# Altium footprint library LQFP.PcbLib: 14 footprints
Each footprint in its own frame and in the unit in brackets; x right, y up, seen from the top. Pads: shape width x height; smd on the part's side, far side on the other; paste and mask are expansions set on the pad; w line width, h text height; cw(c..) or ccw(c..) is an arc to the next point about the centre after c.
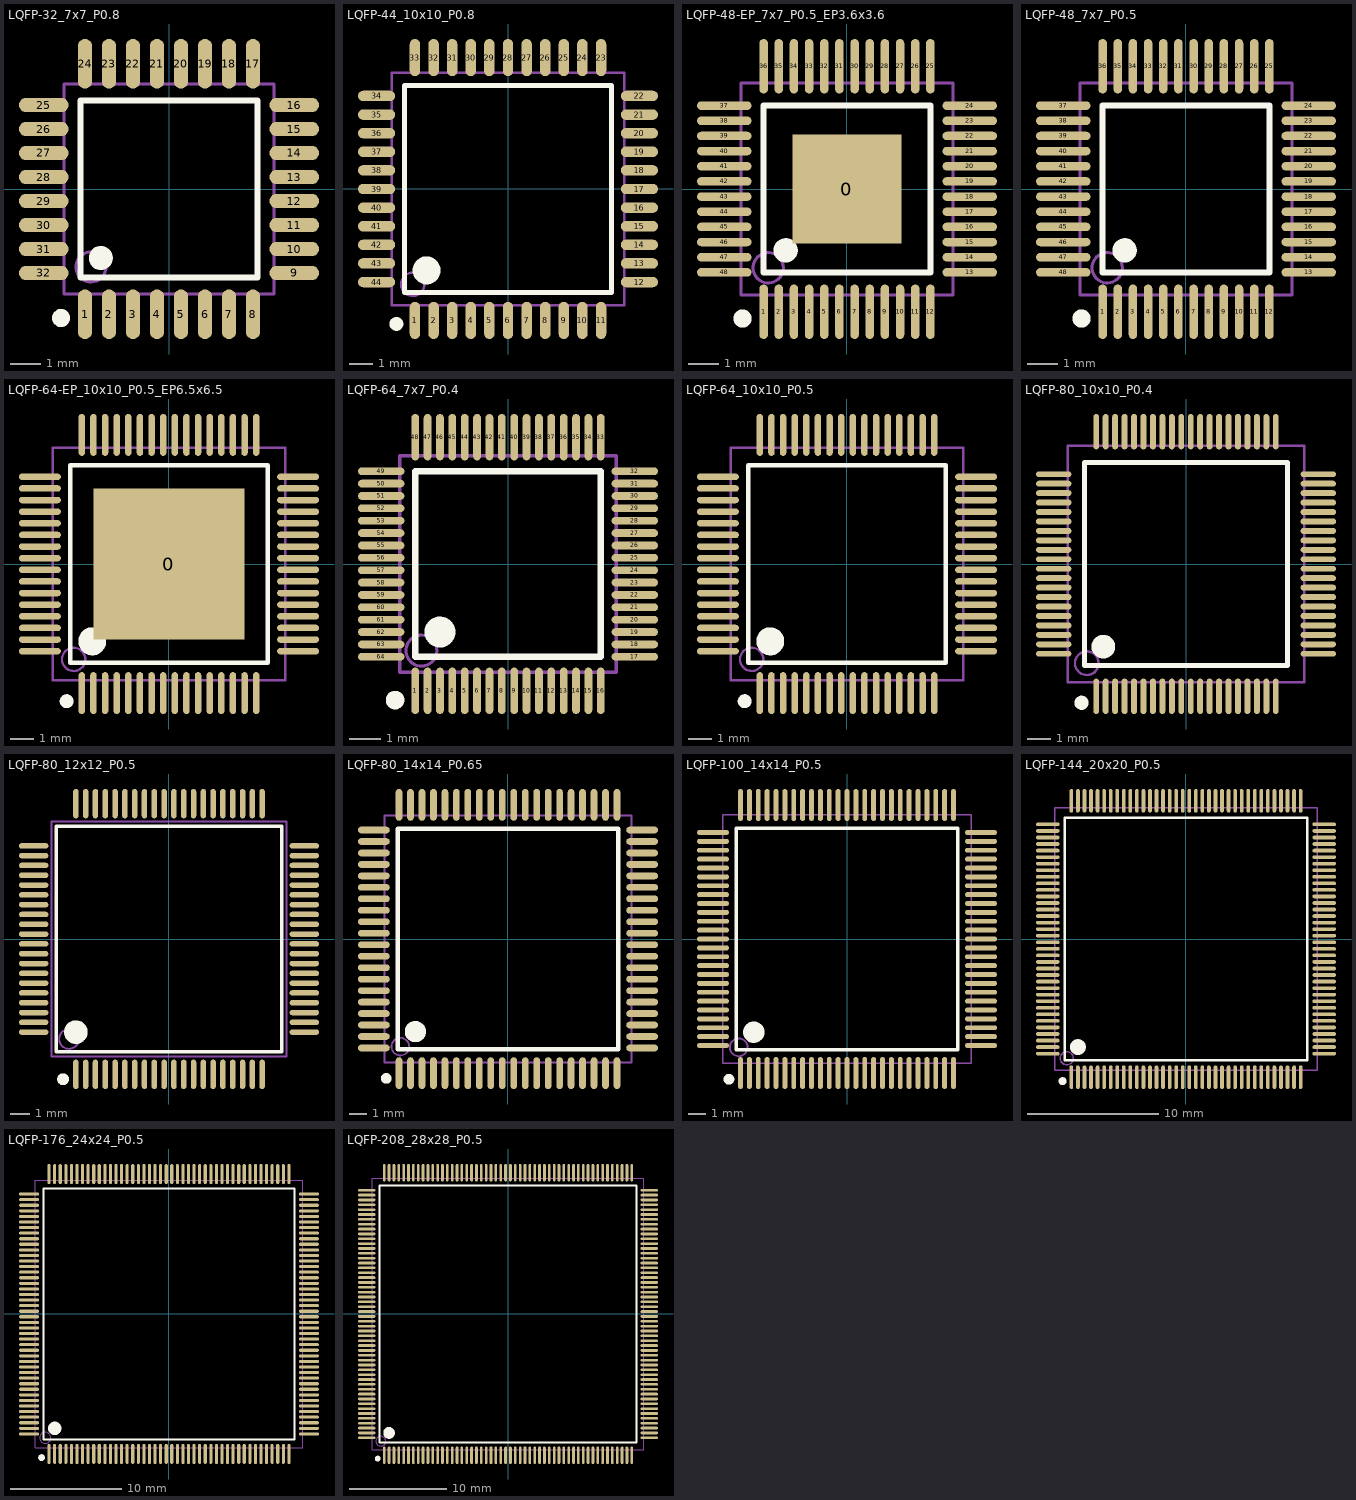
[diagram p0: the footprints below, top view; thin cyan lines are the x and y axes]

## LQFP-32_7x7_P0.8 [mm]
pads (32):
  oval 0.48x1.65 smd: 1(-2.8,-4.175) 2(-2,-4.175) 3(-1.2,-4.175) 4(-0.4,-4.175) 5(0.4,-4.175) 6(1.2,-4.175) 7(2,-4.175) 8(2.8,-4.175) 17(2.8,4.175) 18(2,4.175) 19(1.2,4.175) 20(0.4,4.175) 21(-0.4,4.175) 22(-1.2,4.175) 23(-2,4.175) 24(-2.8,4.175)
  oval 1.65x0.48 smd: 9(4.175,-2.8) 10(4.175,-2) 11(4.175,-1.2) 12(4.175,-0.4) 13(4.175,0.4) 14(4.175,1.2) 15(4.175,2) 16(4.175,2.8) 25(-4.175,2.8) 26(-4.175,2) 27(-4.175,1.2) 28(-4.175,0.4) 29(-4.175,-0.4) 30(-4.175,-1.2) 31(-4.175,-2) 32(-4.175,-2.8)
Top Overlay:
  circle w0.4: c-2.275,-2.3 r0.2
  circle w0.3: c-3.6,-4.3 r0.15
  lines w0.2: -2.95,-2.95 -2.95,2.95 2.95,2.95 2.95,-2.95 -2.95,-2.95
Mechanical 13:
  circle w0.1: c-2.6,-2.6 r0.5
  lines w0.1: -3.5,-3.5 -3.5,3.5 3.5,3.5 3.5,-3.5 -3.5,-3.5
3D body "LQFP-32_7x7mm_P0.8mm.step": height 1.5, standoff 0, extent -4.5,-4.5 4.5,4.5

## LQFP-44_10x10_P0.8 [mm]
pads (44):
  oval 0.45x1.6 smd: 1(-4,-5.65) 2(-3.2,-5.65) 3(-2.4,-5.65) 4(-1.6,-5.65) 5(-0.8,-5.65) 6(0,-5.65) 7(0.8,-5.65) 8(1.6,-5.65) 9(2.4,-5.65) 10(3.2,-5.65) 11(4,-5.65) 23(4,5.65) 24(3.2,5.65) 25(2.4,5.65) 26(1.6,5.65) 27(0.8,5.65) 28(0,5.65) 29(-0.8,5.65) 30(-1.6,5.65) 31(-2.4,5.65) 32(-3.2,5.65) 33(-4,5.65)
  oval 1.6x0.45 smd: 12(5.65,-4) 13(5.65,-3.2) 14(5.65,-2.4) 15(5.65,-1.6) 16(5.65,-0.8) 17(5.65,0) 18(5.65,0.8) 19(5.65,1.6) 20(5.65,2.4) 21(5.65,3.2) 22(5.65,4) 34(-5.65,4) 35(-5.65,3.2) 36(-5.65,2.4) 37(-5.65,1.6) 38(-5.65,0.8) 39(-5.65,0) 40(-5.65,-0.8) 41(-5.65,-1.6) 42(-5.65,-2.4) 43(-5.65,-3.2) 44(-5.65,-4)
Top Overlay:
  circle w0.6: c-3.5,-3.5 r0.3
  circle w0.3: c-4.8,-5.8 r0.15
  lines w0.2: -4.45,-4.45 4.45,-4.45 4.45,4.45 -4.45,4.45 -4.45,-4.45
Mechanical 13:
  circle w0.1: c-4.1,-4.1 r0.5
  lines w0.1: -5,-5 5,-5 5,5 -5,5 -5,-5
3D body "LQFP-44_10x10mm_P0.8mm.step": height 1.5, standoff 0, extent -6,-6 6,6

## LQFP-48-EP_7x7_P0.5_EP3.6x3.6 [mm]
pads (49):
  rect 3.6x3.6 smd mask+0.051: 0(0,0)
  oval 0.28x1.8 smd mask+0.051: 1(-2.75,-4.05) 2(-2.25,-4.05) 3(-1.75,-4.05) 4(-1.25,-4.05) 5(-0.75,-4.05) 6(-0.25,-4.05) 7(0.25,-4.05) 8(0.75,-4.05) 9(1.25,-4.05) 10(1.75,-4.05) 11(2.25,-4.05) 12(2.75,-4.05) 25(2.75,4.05) 26(2.25,4.05) 27(1.75,4.05) 28(1.25,4.05) 29(0.75,4.05) 30(0.25,4.05) 31(-0.25,4.05) 32(-0.75,4.05) 33(-1.25,4.05) 34(-1.75,4.05) 35(-2.25,4.05) 36(-2.75,4.05)
  oval 1.8x0.28 smd mask+0.051: 13(4.05,-2.75) 14(4.05,-2.25) 15(4.05,-1.75) 16(4.05,-1.25) 17(4.05,-0.75) 18(4.05,-0.25) 19(4.05,0.25) 20(4.05,0.75) 21(4.05,1.25) 22(4.05,1.75) 23(4.05,2.25) 24(4.05,2.75) 37(-4.05,2.75) 38(-4.05,2.25) 39(-4.05,1.75) 40(-4.05,1.25) 41(-4.05,0.75) 42(-4.05,0.25) 43(-4.05,-0.25) 44(-4.05,-0.75) 45(-4.05,-1.25) 46(-4.05,-1.75) 47(-4.05,-2.25) 48(-4.05,-2.75)
Top Overlay:
  circle w0.4: c-2.025,-2.025 r0.2
  circle w0.3: c-3.45,-4.275 r0.15
  lines w0.2: -2.75,-2.75 -2.75,2.75 2.75,2.75 2.75,-2.75 -2.75,-2.75
Mechanical 13:
  circle w0.1: c-2.6,-2.6 r0.5
  lines w0.1: -3.5,-3.5 -3.5,3.5 3.5,3.5 3.5,-3.5 -3.5,-3.5
3D body "LQFP-48-1EP_7x7mm_P0.5mm_EP3.6x3.6mm.step": height 1.6, standoff 0, extent -4.66,-4.66 4.66,4.66

## LQFP-48_7x7_P0.5 [mm]
pads (48):
  oval 0.28x1.8 smd mask+0.051: 1(-2.75,-4.05) 2(-2.25,-4.05) 3(-1.75,-4.05) 4(-1.25,-4.05) 5(-0.75,-4.05) 6(-0.25,-4.05) 7(0.25,-4.05) 8(0.75,-4.05) 9(1.25,-4.05) 10(1.75,-4.05) 11(2.25,-4.05) 12(2.75,-4.05) 25(2.75,4.05) 26(2.25,4.05) 27(1.75,4.05) 28(1.25,4.05) 29(0.75,4.05) 30(0.25,4.05) 31(-0.25,4.05) 32(-0.75,4.05) 33(-1.25,4.05) 34(-1.75,4.05) 35(-2.25,4.05) 36(-2.75,4.05)
  oval 1.8x0.28 smd mask+0.051: 13(4.05,-2.75) 14(4.05,-2.25) 15(4.05,-1.75) 16(4.05,-1.25) 17(4.05,-0.75) 18(4.05,-0.25) 19(4.05,0.25) 20(4.05,0.75) 21(4.05,1.25) 22(4.05,1.75) 23(4.05,2.25) 24(4.05,2.75) 37(-4.05,2.75) 38(-4.05,2.25) 39(-4.05,1.75) 40(-4.05,1.25) 41(-4.05,0.75) 42(-4.05,0.25) 43(-4.05,-0.25) 44(-4.05,-0.75) 45(-4.05,-1.25) 46(-4.05,-1.75) 47(-4.05,-2.25) 48(-4.05,-2.75)
Top Overlay:
  circle w0.3: c-3.45,-4.275 r0.15
  circle w0.4: c-2.025,-2.025 r0.2
  lines w0.2: -2.75,-2.75 2.75,-2.75 2.75,2.75 -2.75,2.75 -2.75,-2.75
Mechanical 13:
  circle w0.1: c-2.6,-2.6 r0.5
  lines w0.1: -3.5,-3.5 3.5,-3.5 3.5,3.5 -3.5,3.5 -3.5,-3.5
3D body "LQFP-48_7x7mm_P0.5mm.step": height 1.5, standoff 0, extent -4.5,-4.5 4.5,4.5

## LQFP-64-EP_10x10_P0.5_EP6.5x6.5 [mm]
pads (65):
  rect 6.5x6.5 smd mask+0.051: 0(0,0)
  oval 0.28x1.8 smd mask+0.051: 1(-3.75,-5.55) 2(-3.25,-5.55) 3(-2.75,-5.55) 4(-2.25,-5.55) 5(-1.75,-5.55) 6(-1.25,-5.55) 7(-0.75,-5.55) 8(-0.25,-5.55) 9(0.25,-5.55) 10(0.75,-5.55) 11(1.25,-5.55) 12(1.75,-5.55) 13(2.25,-5.55) 14(2.75,-5.55) 15(3.25,-5.55) 16(3.75,-5.55) 33(3.75,5.55) 34(3.25,5.55) 35(2.75,5.55) 36(2.25,5.55) 37(1.75,5.55) 38(1.25,5.55) 39(0.75,5.55) 40(0.25,5.55) 41(-0.25,5.55) 42(-0.75,5.55) 43(-1.25,5.55) 44(-1.75,5.55) 45(-2.25,5.55) 46(-2.75,5.55) 47(-3.25,5.55) 48(-3.75,5.55)
  oval 1.8x0.28 smd mask+0.051: 17(5.55,-3.75) 18(5.55,-3.25) 19(5.55,-2.75) 20(5.55,-2.25) 21(5.55,-1.75) 22(5.55,-1.25) 23(5.55,-0.75) 24(5.55,-0.25) 25(5.55,0.25) 26(5.55,0.75) 27(5.55,1.25) 28(5.55,1.75) 29(5.55,2.25) 30(5.55,2.75) 31(5.55,3.25) 32(5.55,3.75) 49(-5.55,3.75) 50(-5.55,3.25) 51(-5.55,2.75) 52(-5.55,2.25) 53(-5.55,1.75) 54(-5.55,1.25) 55(-5.55,0.75) 56(-5.55,0.25) 57(-5.55,-0.25) 58(-5.55,-0.75) 59(-5.55,-1.25) 60(-5.55,-1.75) 61(-5.55,-2.25) 62(-5.55,-2.75) 63(-5.55,-3.25) 64(-5.55,-3.75)
Top Overlay:
  circle w0.6: c-3.3,-3.325 r0.3
  circle w0.3: c-4.4,-5.9 r0.15
  lines w0.2: -4.25,-4.25 -4.25,4.25 4.25,4.25 4.25,-4.25 -4.25,-4.25
Mechanical 13:
  circle w0.1: c-4.1,-4.1 r0.5
  lines w0.1: -5,-5 -5,5 5,5 5,-5 -5,-5
3D body "LQFP-64-1EP_10x10mm_P0.5mm_EP6.5x6.5mm.step": height 1.5, standoff 0, extent -6,-6 6,6

## LQFP-64_7x7_P0.4 [mm]
pads (64):
  oval 0.25x1.5 smd mask+0.051: 1(-3,-4.1) 2(-2.6,-4.1) 3(-2.2,-4.1) 4(-1.8,-4.1) 5(-1.4,-4.1) 6(-1,-4.1) 7(-0.6,-4.1) 8(-0.2,-4.1) 9(0.2,-4.1) 10(0.6,-4.1) 11(1,-4.1) 12(1.4,-4.1) 13(1.8,-4.1) 14(2.2,-4.1) 15(2.6,-4.1) 16(3,-4.1) 33(3,4.1) 34(2.6,4.1) 35(2.2,4.1) 36(1.8,4.1) 37(1.4,4.1) 38(1,4.1) 39(0.6,4.1) 40(0.2,4.1) 41(-0.2,4.1) 42(-0.6,4.1) 43(-1,4.1) 44(-1.4,4.1) 45(-1.8,4.1) 46(-2.2,4.1) 47(-2.6,4.1) 48(-3,4.1)
  oval 1.5x0.25 smd mask+0.051: 17(4.1,-3) 18(4.1,-2.6) 19(4.1,-2.2) 20(4.1,-1.8) 21(4.1,-1.4) 22(4.1,-1) 23(4.1,-0.6) 24(4.1,-0.2) 25(4.1,0.2) 26(4.1,0.6) 27(4.1,1) 28(4.1,1.4) 29(4.1,1.8) 30(4.1,2.2) 31(4.1,2.6) 32(4.1,3) 49(-4.1,3) 50(-4.1,2.6) 51(-4.1,2.2) 52(-4.1,1.8) 53(-4.1,1.4) 54(-4.1,1) 55(-4.1,0.6) 56(-4.1,0.2) 57(-4.1,-0.2) 58(-4.1,-0.6) 59(-4.1,-1) 60(-4.1,-1.4) 61(-4.1,-1.8) 62(-4.1,-2.2) 63(-4.1,-2.6) 64(-4.1,-3)
Top Overlay:
  circle w0.3: c-3.65,-4.4 r0.15
  circle w0.5: c-2.2,-2.2 r0.25
  lines w0.2: -3,-3 -3,3 3,3 3,-3 -3,-3
Mechanical 13:
  circle w0.1: c-2.8,-2.8 r0.5
  lines w0.1: -3.5,-3.5 -3.5,3.5 3.5,3.5 3.5,-3.5 -3.5,-3.5

## LQFP-64_10x10_P0.5 [mm]
pads (64):
  oval 0.28x1.8 smd mask+0.051: 1(-3.75,-5.55) 2(-3.25,-5.55) 3(-2.75,-5.55) 4(-2.25,-5.55) 5(-1.75,-5.55) 6(-1.25,-5.55) 7(-0.75,-5.55) 8(-0.25,-5.55) 9(0.25,-5.55) 10(0.75,-5.55) 11(1.25,-5.55) 12(1.75,-5.55) 13(2.25,-5.55) 14(2.75,-5.55) 15(3.25,-5.55) 16(3.75,-5.55) 33(3.75,5.55) 34(3.25,5.55) 35(2.75,5.55) 36(2.25,5.55) 37(1.75,5.55) 38(1.25,5.55) 39(0.75,5.55) 40(0.25,5.55) 41(-0.25,5.55) 42(-0.75,5.55) 43(-1.25,5.55) 44(-1.75,5.55) 45(-2.25,5.55) 46(-2.75,5.55) 47(-3.25,5.55) 48(-3.75,5.55)
  oval 1.8x0.28 smd mask+0.051: 17(5.55,-3.75) 18(5.55,-3.25) 19(5.55,-2.75) 20(5.55,-2.25) 21(5.55,-1.75) 22(5.55,-1.25) 23(5.55,-0.75) 24(5.55,-0.25) 25(5.55,0.25) 26(5.55,0.75) 27(5.55,1.25) 28(5.55,1.75) 29(5.55,2.25) 30(5.55,2.75) 31(5.55,3.25) 32(5.55,3.75) 49(-5.55,3.75) 50(-5.55,3.25) 51(-5.55,2.75) 52(-5.55,2.25) 53(-5.55,1.75) 54(-5.55,1.25) 55(-5.55,0.75) 56(-5.55,0.25) 57(-5.55,-0.25) 58(-5.55,-0.75) 59(-5.55,-1.25) 60(-5.55,-1.75) 61(-5.55,-2.25) 62(-5.55,-2.75) 63(-5.55,-3.25) 64(-5.55,-3.75)
Top Overlay:
  circle w0.6: c-3.3,-3.325 r0.3
  circle w0.3: c-4.4,-5.9 r0.15
  lines w0.2: -4.25,-4.25 -4.25,4.25 4.25,4.25 4.25,-4.25 -4.25,-4.25
Mechanical 13:
  circle w0.1: c-4.1,-4.1 r0.5
  lines w0.1: -5,-5 -5,5 5,5 5,-5 -5,-5
3D body "LQFP-64_10x10mm_P0.5mm.step": height 1.5, standoff 0, extent -6,-6 6,6

## LQFP-80_10x10_P0.4 [mm]
pads (80):
  oval 0.25x1.5 smd mask+0.051: 1(-3.8,-5.6) 2(-3.4,-5.6) 3(-3,-5.6) 4(-2.6,-5.6) 5(-2.2,-5.6) 6(-1.8,-5.6) 7(-1.4,-5.6) 8(-1,-5.6) 9(-0.6,-5.6) 10(-0.2,-5.6) 11(0.2,-5.6) 12(0.6,-5.6) 13(1,-5.6) 14(1.4,-5.6) 15(1.8,-5.6) 16(2.2,-5.6) 17(2.6,-5.6) 18(3,-5.6) 19(3.4,-5.6) 20(3.8,-5.6) 41(3.8,5.6) 42(3.4,5.6) 43(3,5.6) 44(2.6,5.6) 45(2.2,5.6) 46(1.8,5.6) 47(1.4,5.6) 48(1,5.6) 49(0.6,5.6) 50(0.2,5.6) 51(-0.2,5.6) 52(-0.6,5.6) 53(-1,5.6) 54(-1.4,5.6) 55(-1.8,5.6) 56(-2.2,5.6) 57(-2.6,5.6) 58(-3,5.6) 59(-3.4,5.6) 60(-3.8,5.6)
  oval 1.5x0.25 smd mask+0.051: 21(5.6,-3.8) 22(5.6,-3.4) 23(5.6,-3) 24(5.6,-2.6) 25(5.6,-2.2) 26(5.6,-1.8) 27(5.6,-1.4) 28(5.6,-1) 29(5.6,-0.6) 30(5.6,-0.2) 31(5.6,0.2) 32(5.6,0.6) 33(5.6,1) 34(5.6,1.4) 35(5.6,1.8) 36(5.6,2.2) 37(5.6,2.6) 38(5.6,3) 39(5.6,3.4) 40(5.6,3.8) 61(-5.6,3.8) 62(-5.6,3.4) 63(-5.6,3) 64(-5.6,2.6) 65(-5.6,2.2) 66(-5.6,1.8) 67(-5.6,1.4) 68(-5.6,1) 69(-5.6,0.6) 70(-5.6,0.2) 71(-5.6,-0.2) 72(-5.6,-0.6) 73(-5.6,-1) 74(-5.6,-1.4) 75(-5.6,-1.8) 76(-5.6,-2.2) 77(-5.6,-2.6) 78(-5.6,-3) 79(-5.6,-3.4) 80(-5.6,-3.8)
Top Overlay:
  circle w0.3: c-4.425,-5.875 r0.15
  circle w0.5: c-3.5,-3.5 r0.25
  lines w0.2: -4.3,-4.3 4.3,-4.3 4.3,4.3 -4.3,4.3 -4.3,-4.3
Mechanical 13:
  circle w0.1: c-4.2,-4.2 r0.5
  lines w0.1: -5,-5 5,-5 5,5 -5,5 -5,-5
3D body "LQFP-80_10x10mm_P0.4mm.step": height 1.6, standoff 0, extent -6.15,-6.15 6.15,6.15

## LQFP-80_12x12_P0.5 [mm]
pads (80):
  oval 0.28x1.5 smd mask+0.051: 1(-4.75,-6.9) 2(-4.25,-6.9) 3(-3.75,-6.9) 4(-3.25,-6.9) 5(-2.75,-6.9) 6(-2.25,-6.9) 7(-1.75,-6.9) 8(-1.25,-6.9) 9(-0.75,-6.9) 10(-0.25,-6.9) 11(0.25,-6.9) 12(0.75,-6.9) 13(1.25,-6.9) 14(1.75,-6.9) 15(2.25,-6.9) 16(2.75,-6.9) 17(3.25,-6.9) 18(3.75,-6.9) 19(4.25,-6.9) 20(4.75,-6.9) 41(4.75,6.9) 42(4.25,6.9) 43(3.75,6.9) 44(3.25,6.9) 45(2.75,6.9) 46(2.25,6.9) 47(1.75,6.9) 48(1.25,6.9) 49(0.75,6.9) 50(0.25,6.9) 51(-0.25,6.9) 52(-0.75,6.9) 53(-1.25,6.9) 54(-1.75,6.9) 55(-2.25,6.9) 56(-2.75,6.9) 57(-3.25,6.9) 58(-3.75,6.9) 59(-4.25,6.9) 60(-4.75,6.9)
  oval 1.5x0.28 smd mask+0.051: 21(6.9,-4.75) 22(6.9,-4.25) 23(6.9,-3.75) 24(6.9,-3.25) 25(6.9,-2.75) 26(6.9,-2.25) 27(6.9,-1.75) 28(6.9,-1.25) 29(6.9,-0.75) 30(6.9,-0.25) 31(6.9,0.25) 32(6.9,0.75) 33(6.9,1.25) 34(6.9,1.75) 35(6.9,2.25) 36(6.9,2.75) 37(6.9,3.25) 38(6.9,3.75) 39(6.9,4.25) 40(6.9,4.75) 61(-6.9,4.75) 62(-6.9,4.25) 63(-6.9,3.75) 64(-6.9,3.25) 65(-6.9,2.75) 66(-6.9,2.25) 67(-6.9,1.75) 68(-6.9,1.25) 69(-6.9,0.75) 70(-6.9,0.25) 71(-6.9,-0.25) 72(-6.9,-0.75) 73(-6.9,-1.25) 74(-6.9,-1.75) 75(-6.9,-2.25) 76(-6.9,-2.75) 77(-6.9,-3.25) 78(-6.9,-3.75) 79(-6.9,-4.25) 80(-6.9,-4.75)
Top Overlay:
  circle w0.6: c-4.75,-4.75 r0.3
  circle w0.3: c-5.4,-7.15 r0.15
  lines w0.2: -5.75,-5.75 5.75,-5.75 5.75,5.75 -5.75,5.75 -5.75,-5.75
Mechanical 13:
  circle w0.1: c-5.1,-5.1 r0.5
  lines w0.1: -6,-6 6,-6 6,6 -6,6 -6,-6
3D body "LQFP-80_12x12mm_P0.5mm.step": height 1.5, standoff 0, extent -7,-7 7,7

## LQFP-80_14x14_P0.65 [mm]
pads (80):
  oval 0.38x1.8 smd mask+0.051: 1(-6.175,-7.6) 2(-5.525,-7.6) 3(-4.875,-7.6) 4(-4.225,-7.6) 5(-3.575,-7.6) 6(-2.925,-7.6) 7(-2.275,-7.6) 8(-1.625,-7.6) 9(-0.975,-7.6) 10(-0.325,-7.6) 11(0.325,-7.6) 12(0.975,-7.6) 13(1.625,-7.6) 14(2.275,-7.6) 15(2.925,-7.6) 16(3.575,-7.6) 17(4.225,-7.6) 18(4.875,-7.6) 19(5.525,-7.6) 20(6.175,-7.6) 41(6.175,7.6) 42(5.525,7.6) 43(4.875,7.6) 44(4.225,7.6) 45(3.575,7.6) 46(2.925,7.6) 47(2.275,7.6) 48(1.625,7.6) 49(0.975,7.6) 50(0.325,7.6) 51(-0.325,7.6) 52(-0.975,7.6) 53(-1.625,7.6) 54(-2.275,7.6) 55(-2.925,7.6) 56(-3.575,7.6) 57(-4.225,7.6) 58(-4.875,7.6) 59(-5.525,7.6) 60(-6.175,7.6)
  oval 1.8x0.38 smd mask+0.051: 21(7.6,-6.175) 22(7.6,-5.525) 23(7.6,-4.875) 24(7.6,-4.225) 25(7.6,-3.575) 26(7.6,-2.925) 27(7.6,-2.275) 28(7.6,-1.625) 29(7.6,-0.975) 30(7.6,-0.325) 31(7.6,0.325) 32(7.6,0.975) 33(7.6,1.625) 34(7.6,2.275) 35(7.6,2.925) 36(7.6,3.575) 37(7.6,4.225) 38(7.6,4.875) 39(7.6,5.525) 40(7.6,6.175) 61(-7.6,6.175) 62(-7.6,5.525) 63(-7.6,4.875) 64(-7.6,4.225) 65(-7.6,3.575) 66(-7.6,2.925) 67(-7.6,2.275) 68(-7.6,1.625) 69(-7.6,0.975) 70(-7.6,0.325) 71(-7.6,-0.325) 72(-7.6,-0.975) 73(-7.6,-1.625) 74(-7.6,-2.275) 75(-7.6,-2.925) 76(-7.6,-3.575) 77(-7.6,-4.225) 78(-7.6,-4.875) 79(-7.6,-5.525) 80(-7.6,-6.175)
Top Overlay:
  circle w0.3: c-6.9,-7.9 r0.15
  circle w0.6: c-5.25,-5.25 r0.3
  lines w0.254: -6.25,-6.25 6.25,-6.25 6.25,6.25 -6.25,6.25 -6.25,-6.25
Mechanical 13:
  circle w0.1: c-6.1,-6.1 r0.5
  lines w0.1: -7,-7 7,-7 7,7 -7,7 -7,-7
3D body "LQFP-80_14x14mm_P0.65mm.step": height 1.6, standoff 0, extent -8.2,-8.2 8.2,8.2

## LQFP-100_14x14_P0.5 [mm]
pads (100):
  oval 0.28x1.8 smd mask+0.051: 1(-6,-7.55) 2(-5.5,-7.55) 3(-5,-7.55) 4(-4.5,-7.55) 5(-4,-7.55) 6(-3.5,-7.55) 7(-3,-7.55) 8(-2.5,-7.55) 9(-2,-7.55) 10(-1.5,-7.55) 11(-1,-7.55) 12(-0.5,-7.55) 13(0,-7.55) 14(0.5,-7.55) 15(1,-7.55) 16(1.5,-7.55) 17(2,-7.55) 18(2.5,-7.55) 19(3,-7.55) 20(3.5,-7.55) 21(4,-7.55) 22(4.5,-7.55) 23(5,-7.55) 24(5.5,-7.55) 25(6,-7.55) 51(6,7.55) 52(5.5,7.55) 53(5,7.55) 54(4.5,7.55) 55(4,7.55) 56(3.5,7.55) 57(3,7.55) 58(2.5,7.55) 59(2,7.55) 60(1.5,7.55) 61(1,7.55) 62(0.5,7.55) 63(0,7.55) 64(-0.5,7.55) 65(-1,7.55) 66(-1.5,7.55) 67(-2,7.55) 68(-2.5,7.55) 69(-3,7.55) 70(-3.5,7.55) 71(-4,7.55) 72(-4.5,7.55) 73(-5,7.55) 74(-5.5,7.55) 75(-6,7.55)
  oval 1.8x0.28 smd mask+0.051: 26(7.55,-6) 27(7.55,-5.5) 28(7.55,-5) 29(7.55,-4.5) 30(7.55,-4) 31(7.55,-3.5) 32(7.55,-3) 33(7.55,-2.5) 34(7.55,-2) 35(7.55,-1.5) 36(7.55,-1) 37(7.55,-0.5) 38(7.55,0) 39(7.55,0.5) 40(7.55,1) 41(7.55,1.5) 42(7.55,2) 43(7.55,2.5) 44(7.55,3) 45(7.55,3.5) 46(7.55,4) 47(7.55,4.5) 48(7.55,5) 49(7.55,5.5) 50(7.55,6) 76(-7.55,6) 77(-7.55,5.5) 78(-7.55,5) 79(-7.55,4.5) 80(-7.55,4) 81(-7.55,3.5) 82(-7.55,3) 83(-7.55,2.5) 84(-7.55,2) 85(-7.55,1.5) 86(-7.55,1) 87(-7.55,0.5) 88(-7.55,0) 89(-7.55,-0.5) 90(-7.55,-1) 91(-7.55,-1.5) 92(-7.55,-2) 93(-7.55,-2.5) 94(-7.55,-3) 95(-7.55,-3.5) 96(-7.55,-4) 97(-7.55,-4.5) 98(-7.55,-5) 99(-7.55,-5.5) 100(-7.55,-6)
Top Overlay:
  circle w0.6: c-5.25,-5.25 r0.3
  circle w0.3: c-6.65,-7.9 r0.15
  lines w0.2: -6.25,-6.25 -6.25,6.25 6.25,6.25 6.25,-6.25 -6.25,-6.25
Mechanical 13:
  circle w0.1: c-6.1,-6.1 r0.5
  lines w0.1: -7,-7 -7,7 7,7 7,-7 -7,-7
3D body "LQFP-100_14x14mm_P0.5mm.step": height 1.5, standoff 0, extent -8,-7.873 8,8.127

## LQFP-144_20x20_P0.5 [mm]
pads (144):
  oval 0.28x1.8 smd mask+0.051: 1(-8.75,-10.55) 2(-8.25,-10.55) 3(-7.75,-10.55) 4(-7.25,-10.55) 5(-6.75,-10.55) 6(-6.25,-10.55) 7(-5.75,-10.55) 8(-5.25,-10.55) 9(-4.75,-10.55) 10(-4.25,-10.55) 11(-3.75,-10.55) 12(-3.25,-10.55) 13(-2.75,-10.55) 14(-2.25,-10.55) 15(-1.75,-10.55) 16(-1.25,-10.55) 17(-0.75,-10.55) 18(-0.25,-10.55) 19(0.25,-10.55) 20(0.75,-10.55) 21(1.25,-10.55) 22(1.75,-10.55) 23(2.25,-10.55) 24(2.75,-10.55) 25(3.25,-10.55) 26(3.75,-10.55) 27(4.25,-10.55) 28(4.75,-10.55) 29(5.25,-10.55) 30(5.75,-10.55) 31(6.25,-10.55) 32(6.75,-10.55) 33(7.25,-10.55) 34(7.75,-10.55) 35(8.25,-10.55) 36(8.75,-10.55) 73(8.75,10.55) 74(8.25,10.55) 75(7.75,10.55) 76(7.25,10.55) 77(6.75,10.55) 78(6.25,10.55) 79(5.75,10.55) 80(5.25,10.55) 81(4.75,10.55) 82(4.25,10.55) 83(3.75,10.55) 84(3.25,10.55) 85(2.75,10.55) 86(2.25,10.55) 87(1.75,10.55) 88(1.25,10.55) 89(0.75,10.55) 90(0.25,10.55) 91(-0.25,10.55) 92(-0.75,10.55) 93(-1.25,10.55) 94(-1.75,10.55) 95(-2.25,10.55) 96(-2.75,10.55) 97(-3.25,10.55) 98(-3.75,10.55) 99(-4.25,10.55) 100(-4.75,10.55) 101(-5.25,10.55) 102(-5.75,10.55) 103(-6.25,10.55) 104(-6.75,10.55) 105(-7.25,10.55) 106(-7.75,10.55) 107(-8.25,10.55) 108(-8.75,10.55)
  oval 1.8x0.28 smd mask+0.051: 37(10.55,-8.75) 38(10.55,-8.25) 39(10.55,-7.75) 40(10.55,-7.25) 41(10.55,-6.75) 42(10.55,-6.25) 43(10.55,-5.75) 44(10.55,-5.25) 45(10.55,-4.75) 46(10.55,-4.25) 47(10.55,-3.75) 48(10.55,-3.25) 49(10.55,-2.75) 50(10.55,-2.25) 51(10.55,-1.75) 52(10.55,-1.25) 53(10.55,-0.75) 54(10.55,-0.25) 55(10.55,0.25) 56(10.55,0.75) 57(10.55,1.25) 58(10.55,1.75) 59(10.55,2.25) 60(10.55,2.75) 61(10.55,3.25) 62(10.55,3.75) 63(10.55,4.25) 64(10.55,4.75) 65(10.55,5.25) 66(10.55,5.75) 67(10.55,6.25) 68(10.55,6.75) 69(10.55,7.25) 70(10.55,7.75) 71(10.55,8.25) 72(10.55,8.75) 109(-10.55,8.75) 110(-10.55,8.25) 111(-10.55,7.75) 112(-10.55,7.25) 113(-10.55,6.75) 114(-10.55,6.25) 115(-10.55,5.75) 116(-10.55,5.25) 117(-10.55,4.75) 118(-10.55,4.25) 119(-10.55,3.75) 120(-10.55,3.25) 121(-10.55,2.75) 122(-10.55,2.25) 123(-10.55,1.75) 124(-10.55,1.25) 125(-10.55,0.75) 126(-10.55,0.25) 127(-10.55,-0.25) 128(-10.55,-0.75) 129(-10.55,-1.25) 130(-10.55,-1.75) 131(-10.55,-2.25) 132(-10.55,-2.75) 133(-10.55,-3.25) 134(-10.55,-3.75) 135(-10.55,-4.25) 136(-10.55,-4.75) 137(-10.55,-5.25) 138(-10.55,-5.75) 139(-10.55,-6.25) 140(-10.55,-6.75) 141(-10.55,-7.25) 142(-10.55,-7.75) 143(-10.55,-8.25) 144(-10.55,-8.75)
Top Overlay:
  circle w0.6: c-8.25,-8.25 r0.3
  circle w0.3: c-9.425,-10.85 r0.15
  lines w0.2: -9.25,-9.25 9.25,-9.25 9.25,9.25 -9.25,9.25 -9.25,-9.25
Mechanical 13:
  circle w0.1: c-9.1,-9.1 r0.5
  lines w0.1: -10,-10 10,-10 10,10 -10,10 -10,-10
3D body "LQFP-144_20x20mm_P0.5mm.step": height 1.5, standoff 0, extent -11,-11 11,11

## LQFP-176_24x24_P0.5 [mm]
pads (176):
  oval 0.28x1.8 smd mask+0.051: 1(-10.742,-12.558) 2(-10.242,-12.558) 3(-9.742,-12.558) 4(-9.242,-12.558) 5(-8.742,-12.558) 6(-8.242,-12.558) 7(-7.742,-12.558) 8(-7.242,-12.558) 9(-6.742,-12.558) 10(-6.242,-12.558) 11(-5.742,-12.558) 12(-5.242,-12.558) 13(-4.742,-12.558) 14(-4.242,-12.558) 15(-3.742,-12.558) 16(-3.242,-12.558) 17(-2.742,-12.558) 18(-2.242,-12.558) 19(-1.742,-12.558) 20(-1.242,-12.558) 21(-0.742,-12.558) 22(-0.242,-12.558) 23(0.258,-12.558) 24(0.758,-12.558) 25(1.258,-12.558) 26(1.758,-12.558) 27(2.258,-12.558) 28(2.758,-12.558) 29(3.258,-12.558) 30(3.758,-12.558) 31(4.258,-12.558) 32(4.758,-12.558) 33(5.258,-12.558) 34(5.758,-12.558) 35(6.258,-12.558) 36(6.758,-12.558) 37(7.258,-12.558) 38(7.758,-12.558) 39(8.258,-12.558) 40(8.758,-12.558) 41(9.258,-12.558) 42(9.758,-12.558) 43(10.258,-12.558) 44(10.758,-12.558) 89(10.758,12.542) 90(10.258,12.542) 91(9.758,12.542) 92(9.258,12.542) 93(8.758,12.542) 94(8.258,12.542) 95(7.758,12.542) 96(7.258,12.542) 97(6.758,12.542) 98(6.258,12.542) 99(5.758,12.542) 100(5.258,12.542) 101(4.758,12.542) 102(4.258,12.542) 103(3.758,12.542) 104(3.258,12.542) 105(2.758,12.542) 106(2.258,12.542) 107(1.758,12.542) 108(1.258,12.542) 109(0.758,12.542) 110(0.258,12.542) 111(-0.242,12.542) 112(-0.742,12.542) 113(-1.242,12.542) 114(-1.742,12.542) 115(-2.242,12.542) 116(-2.742,12.542) 117(-3.242,12.542) 118(-3.742,12.542) 119(-4.242,12.542) 120(-4.742,12.542) 121(-5.242,12.542) 122(-5.742,12.542) 123(-6.242,12.542) 124(-6.742,12.542) 125(-7.242,12.542) 126(-7.742,12.542) 127(-8.242,12.542) 128(-8.742,12.542) 129(-9.242,12.542) 130(-9.742,12.542) 131(-10.242,12.542) 132(-10.742,12.542)
  oval 1.8x0.28 smd mask+0.051: 45(12.558,-10.758) 46(12.558,-10.258) 47(12.558,-9.758) 48(12.558,-9.258) 49(12.558,-8.758) 50(12.558,-8.258) 51(12.558,-7.758) 52(12.558,-7.258) 53(12.558,-6.758) 54(12.558,-6.258) 55(12.558,-5.758) 56(12.558,-5.258) 57(12.558,-4.758) 58(12.558,-4.258) 59(12.558,-3.758) 60(12.558,-3.258) 61(12.558,-2.758) 62(12.558,-2.258) 63(12.558,-1.758) 64(12.558,-1.258) 65(12.558,-0.758) 66(12.558,-0.258) 67(12.558,0.242) 68(12.558,0.742) 69(12.558,1.242) 70(12.558,1.742) 71(12.558,2.242) 72(12.558,2.742) 73(12.558,3.242) 74(12.558,3.742) 75(12.558,4.242) 76(12.558,4.742) 77(12.558,5.242) 78(12.558,5.742) 79(12.558,6.242) 80(12.558,6.742) 81(12.558,7.242) 82(12.558,7.742) 83(12.558,8.242) 84(12.558,8.742) 85(12.558,9.242) 86(12.558,9.742) 87(12.558,10.242) 88(12.558,10.742) 133(-12.542,10.742) 134(-12.542,10.242) 135(-12.542,9.742) 136(-12.542,9.242) 137(-12.542,8.742) 138(-12.542,8.242) 139(-12.542,7.742) 140(-12.542,7.242) 141(-12.542,6.742) 142(-12.542,6.242) 143(-12.542,5.742) 144(-12.542,5.242) 145(-12.542,4.742) 146(-12.542,4.242) 147(-12.542,3.742) 148(-12.542,3.242) 149(-12.542,2.742) 150(-12.542,2.242) 151(-12.542,1.742) 152(-12.542,1.242) 153(-12.542,0.742) 154(-12.542,0.242) 155(-12.542,-0.258) 156(-12.542,-0.758) 157(-12.542,-1.258) 158(-12.542,-1.758) 159(-12.542,-2.258) 160(-12.542,-2.758) 161(-12.542,-3.258) 162(-12.542,-3.758) 163(-12.542,-4.258) 164(-12.542,-4.758) 165(-12.542,-5.258) 166(-12.542,-5.758) 167(-12.542,-6.258) 168(-12.542,-6.758) 169(-12.542,-7.258) 170(-12.542,-7.758) 171(-12.542,-8.258) 172(-12.542,-8.758) 173(-12.542,-9.258) 174(-12.542,-9.758) 175(-12.542,-10.258) 176(-12.542,-10.758)
Top Overlay:
  circle w0.3: c-11.417,-12.883 r0.15
  circle w0.6: c-10.242,-10.258 r0.3
  lines w0.2: -11.242,-11.258 11.258,-11.258 11.258,11.242 -11.242,11.242 -11.242,-11.258
Mechanical 13:
  circle w0.1: c-11.092,-11.108 r0.5
  lines w0.1: -11.992,-12.008 12.008,-12.008 12.008,11.992 -11.992,11.992 -11.992,-12.008
3D body "LQFP-176_24x24mm_P0.5mm.step": height 1.5, standoff 0, extent -13,-13 13,13

## LQFP-208_28x28_P0.5 [mm]
pads (208):
  oval 0.28x1.8 smd mask+0.051: 1(-12.768,-14.568) 2(-12.268,-14.568) 3(-11.768,-14.568) 4(-11.268,-14.568) 5(-10.768,-14.568) 6(-10.268,-14.568) 7(-9.768,-14.568) 8(-9.268,-14.568) 9(-8.768,-14.568) 10(-8.268,-14.568) 11(-7.768,-14.568) 12(-7.268,-14.568) 13(-6.768,-14.568) 14(-6.268,-14.568) 15(-5.768,-14.568) 16(-5.268,-14.568) 17(-4.768,-14.568) 18(-4.268,-14.568) 19(-3.768,-14.568) 20(-3.268,-14.568) 21(-2.768,-14.568) 22(-2.268,-14.568) 23(-1.768,-14.568) 24(-1.268,-14.568) 25(-0.768,-14.568) 26(-0.268,-14.568) 27(0.232,-14.568) 28(0.732,-14.568) 29(1.232,-14.568) 30(1.732,-14.568) 31(2.232,-14.568) 32(2.732,-14.568) 33(3.232,-14.568) 34(3.732,-14.568) 35(4.232,-14.568) 36(4.732,-14.568) 37(5.232,-14.568) 38(5.732,-14.568) 39(6.232,-14.568) 40(6.732,-14.568) 41(7.232,-14.568) 42(7.732,-14.568) 43(8.232,-14.568) 44(8.732,-14.568) 45(9.232,-14.568) 46(9.732,-14.568) 47(10.232,-14.568) 48(10.732,-14.568) 49(11.232,-14.568) 50(11.732,-14.568) 51(12.232,-14.568) 52(12.732,-14.568) 105(12.732,14.532) 106(12.232,14.532) 107(11.732,14.532) 108(11.232,14.532) 109(10.732,14.532) 110(10.232,14.532) 111(9.732,14.532) 112(9.232,14.532) 113(8.732,14.532) 114(8.232,14.532) 115(7.732,14.532) 116(7.232,14.532) 117(6.732,14.532) 118(6.232,14.532) 119(5.732,14.532) 120(5.232,14.532) 121(4.732,14.532) 122(4.232,14.532) 123(3.732,14.532) 124(3.232,14.532) 125(2.732,14.532) 126(2.232,14.532) 127(1.732,14.532) 128(1.232,14.532) 129(0.732,14.532) 130(0.232,14.532) 131(-0.268,14.532) 132(-0.768,14.532) 133(-1.268,14.532) 134(-1.768,14.532) 135(-2.268,14.532) 136(-2.768,14.532) 137(-3.268,14.532) 138(-3.768,14.532) 139(-4.268,14.532) 140(-4.768,14.532) 141(-5.268,14.532) 142(-5.768,14.532) 143(-6.268,14.532) 144(-6.768,14.532) 145(-7.268,14.532) 146(-7.768,14.532) 147(-8.268,14.532) 148(-8.768,14.532) 149(-9.268,14.532) 150(-9.768,14.532) 151(-10.268,14.532) 152(-10.768,14.532) 153(-11.268,14.532) 154(-11.768,14.532) 155(-12.268,14.532) 156(-12.768,14.532)
  oval 1.8x0.28 smd mask+0.051: 53(14.532,-12.768) 54(14.532,-12.268) 55(14.532,-11.768) 56(14.532,-11.268) 57(14.532,-10.768) 58(14.532,-10.268) 59(14.532,-9.768) 60(14.532,-9.268) 61(14.532,-8.768) 62(14.532,-8.268) 63(14.532,-7.768) 64(14.532,-7.268) 65(14.532,-6.768) 66(14.532,-6.268) 67(14.532,-5.768) 68(14.532,-5.268) 69(14.532,-4.768) 70(14.532,-4.268) 71(14.532,-3.768) 72(14.532,-3.268) 73(14.532,-2.768) 74(14.532,-2.268) 75(14.532,-1.768) 76(14.532,-1.268) 77(14.532,-0.768) 78(14.532,-0.268) 79(14.532,0.232) 80(14.532,0.732) 81(14.532,1.232) 82(14.532,1.732) 83(14.532,2.232) 84(14.532,2.732) 85(14.532,3.232) 86(14.532,3.732) 87(14.532,4.232) 88(14.532,4.732) 89(14.532,5.232) 90(14.532,5.732) 91(14.532,6.232) 92(14.532,6.732) 93(14.532,7.232) 94(14.532,7.732) 95(14.532,8.232) 96(14.532,8.732) 97(14.532,9.232) 98(14.532,9.732) 99(14.532,10.232) 100(14.532,10.732) 101(14.532,11.232) 102(14.532,11.732) 103(14.532,12.232) 104(14.532,12.732) 157(-14.568,12.732) 158(-14.568,12.232) 159(-14.568,11.732) 160(-14.568,11.232) 161(-14.568,10.732) 162(-14.568,10.232) 163(-14.568,9.732) 164(-14.568,9.232) 165(-14.568,8.732) 166(-14.568,8.232) 167(-14.568,7.732) 168(-14.568,7.232) 169(-14.568,6.732) 170(-14.568,6.232) 171(-14.568,5.732) 172(-14.568,5.232) 173(-14.568,4.732) 174(-14.568,4.232) 175(-14.568,3.732) 176(-14.568,3.232) 177(-14.568,2.732) 178(-14.568,2.232) 179(-14.568,1.732) 180(-14.568,1.232) 181(-14.568,0.732) 182(-14.568,0.232) 183(-14.568,-0.268) 184(-14.568,-0.768) 185(-14.568,-1.268) 186(-14.568,-1.768) 187(-14.568,-2.268) 188(-14.568,-2.768) 189(-14.568,-3.268) 190(-14.568,-3.768) 191(-14.568,-4.268) 192(-14.568,-4.768) 193(-14.568,-5.268) 194(-14.568,-5.768) 195(-14.568,-6.268) 196(-14.568,-6.768) 197(-14.568,-7.268) 198(-14.568,-7.768) 199(-14.568,-8.268) 200(-14.568,-8.768) 201(-14.568,-9.268) 202(-14.568,-9.768) 203(-14.568,-10.268) 204(-14.568,-10.768) 205(-14.568,-11.268) 206(-14.568,-11.768) 207(-14.568,-12.268) 208(-14.568,-12.768)
Top Overlay:
  circle w0.3: c-13.443,-14.918 r0.15
  circle w0.6: c-12.268,-12.268 r0.3
  lines w0.2: -13.268,-13.268 -13.268,13.232 13.232,13.232 13.232,-13.268 -13.268,-13.268
Mechanical 13:
  circle w0.1: c-13.118,-13.118 r0.5
  lines w0.1: -14.018,-14.018 -14.018,13.982 13.982,13.982 13.982,-14.018 -14.018,-14.018
3D body "LQFP-208_28x28mm_P0.5mm.step": height 1.5, standoff 0, extent -15,-15 15,15